# EAGLE library part HE10-16 (library lib_paul)
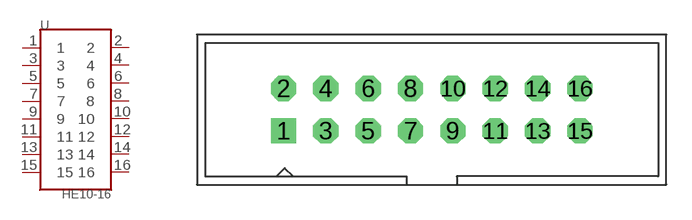
[diagram p15: symbol with the pads of CON-HE10-16-2.54; footprint CON-HE10-16-2.54]

Designator prefix -

## HE10-16  [CON-HE10-16-2.54]
1  1
2  2
3  3
4  4
5  5
6  6
7  7
8  8
9  9
10  10
11  11
12  12
13  13
14  14
15  15
16  16

## Footprint CON-HE10-16-2.54 (pad centres in mm)
drill 1 square: 1 -8.89,-1.27
drill 1 octagon: 2 -8.89,1.27; 3 -6.35,-1.27; 4 -6.35,1.27; 5 -3.81,-1.27; 6 -3.81,1.27; 7 -1.27,-1.27; 8 -1.27,1.27; 9 1.27,-1.27; 10 1.27,1.27; 11 3.81,-1.27; 12 3.81,1.27; 13 6.35,-1.27; 14 6.35,1.27; 15 8.89,-1.27; 16 8.89,1.27